# Altium footprint library PTR500-2.PcbLib: 2 footprints
Each footprint in its own frame and in the unit in brackets; x right, y up, seen from the top. Pads: shape width x height; smd on the part's side, far side on the other; paste and mask are expansions set on the pad; w line width, h text height; cw(c..) or ccw(c..) is an arc to the next point about the centre after c.
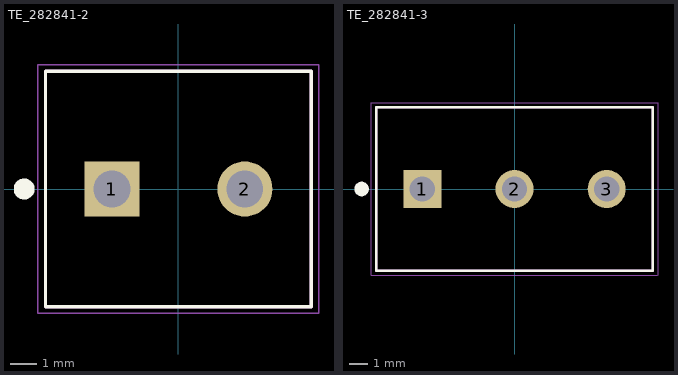
[diagram p0: the footprints below, top view; thin cyan lines are the x and y axes]

## TE_282841-2 [mm]
pads (2):
  rect 2.1x2.1 hole 1.4: 1(-2.54,0)
  round 2.1 hole 1.4: 2(2.54,0)
Top Overlay:
  circle w0.4: c-5.89,0 r0.2
  lines w0.127: -5.08,-4.5 -5.08,4.5 5.08,4.5 5.08,-4.5 -5.08,-4.5
Mechanical 13:
  circle w0.4: c-2.54,0 r0.2
  lines w0.127: -5.08,-4.5 -5.08,4.5 5.08,4.5 5.08,-4.5 -5.08,-4.5
Mechanical 15:
  lines w0.05: -5.37,-4.75 5.37,-4.75 5.37,4.75 -5.37,4.75 -5.37,-4.75
3D body "282841-2--3DModel-STEP-1.stp": height 15.21, standoff -3.49, extent -5.076,-4.555 5.584,4.445

## TE_282841-3 [mm]
pads (3):
  rect 2.1x2.1 hole 1.4: 1(-5.08,0)
  round 2.1 hole 1.4: 2(0,0) 3(5.08,0)
Top Overlay:
  circle w0.4: c-8.43,0 r0.2
  lines w0.127: -7.62,-4.5 -7.62,4.5 7.62,4.5 7.62,-4.5 -7.62,-4.5
Mechanical 13:
  circle w0.4: c-5.08,0 r0.2
  lines w0.127: -7.62,-4.5 -7.62,4.5 7.62,4.5 7.62,2.25 7.62,-2.25 7.62,-4.5 -7.62,-4.5
Mechanical 15:
  lines w0.05: 7.874,-4.75 -7.91,-4.75 -7.91,4.75 7.874,4.75 ; 7.91,-4.75 7.91,4.75
3D body "1546216-3.STEP": height 10.01, standoff -3.49, extent -8.054,-4.064 7.546,4.136